# EAGLE library part RFM01 (library n39)
RFM01
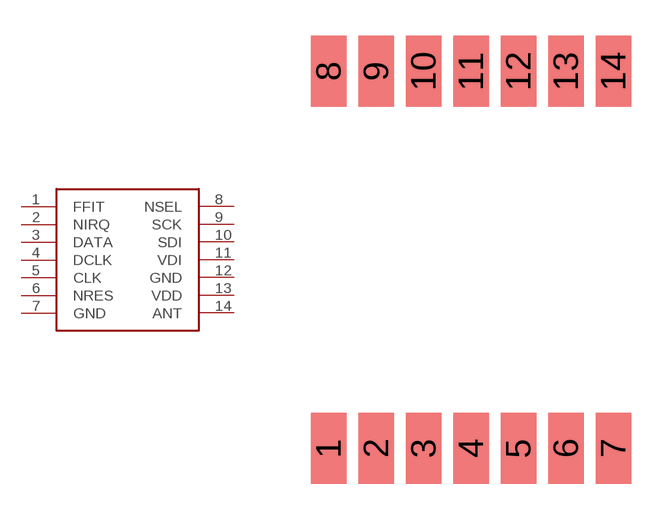
[diagram p1: symbol with the pads of RFM; footprint RFM]

Designator prefix IC

## RFM01  [RFM]
1  FFIT
2  NIRQ
3  DATA
4  DCLK
5  CLK
6  NRES
7  GND
8  NSEL
9  SCK
10  SDI
11  VDI
12  GND
13  VDD
14  ANT

## Footprint RFM (pad centres in mm)
RFM
smd 1.5 x 3: 1 0,0; 2 2,0; 3 4,0; 4 6,0; 5 8,0; 6 10,0; 7 12,0; 8 0,15.9; 9 2,15.9; 10 4,15.9; 11 6,15.9; 12 8,15.9; 13 10,15.9; 14 12,15.9